# Altium integrated library IR Rectifier - Schottky.IntLib: 340 symbols (part 4 of 6)
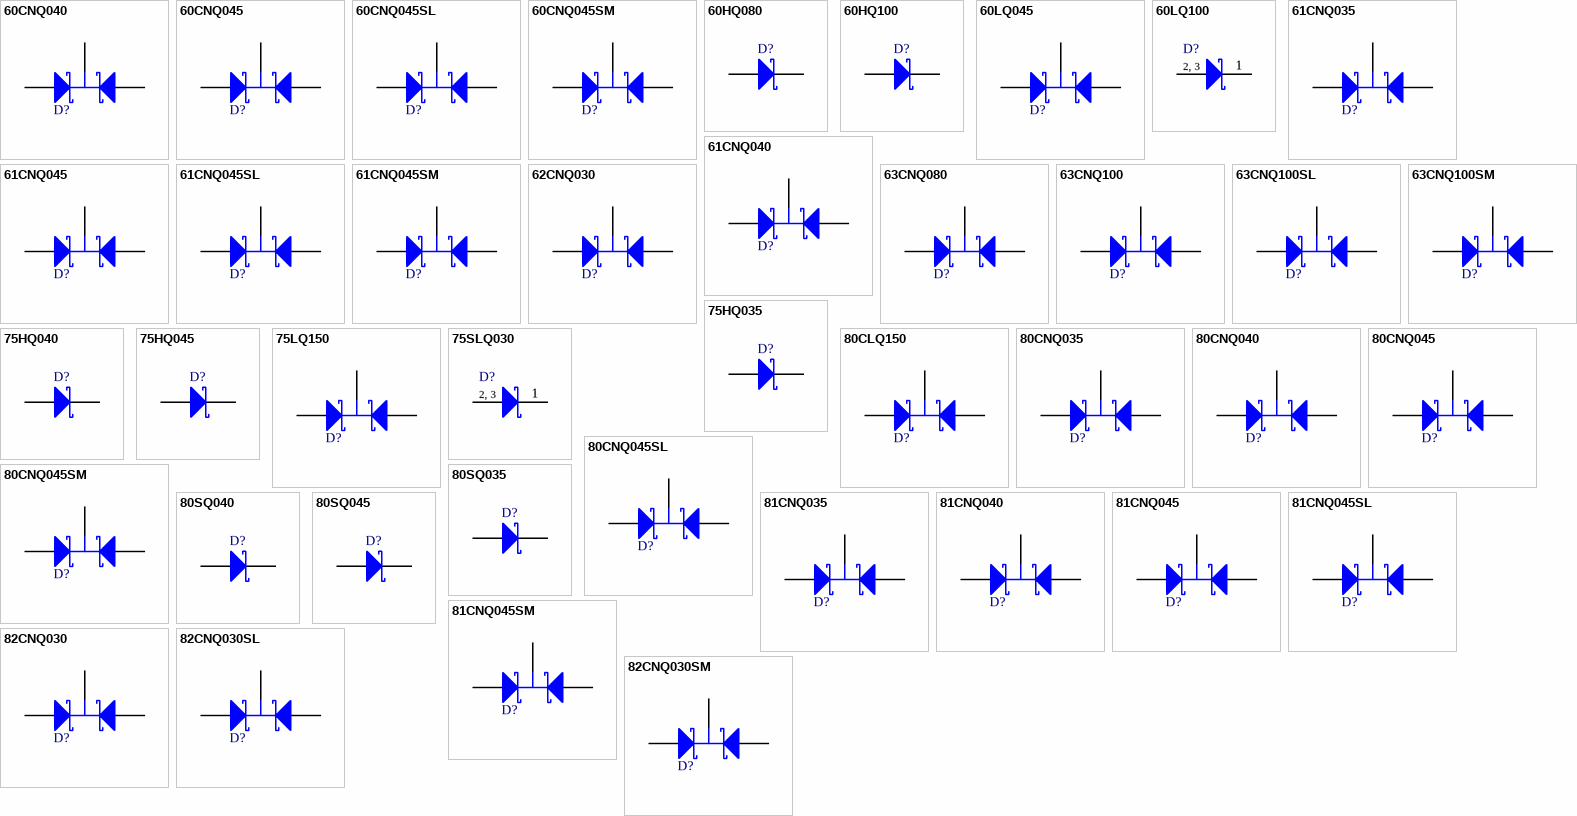
[diagram p11: symbols 60CNQ040 to 82CNQ030SM]

## 82CNQ030
designator D?
Schottky Rectifier; Note: Pin 2 (cathode) is electrically connected to BASE; Published: 8-Jun-2000; LatestRevisionDate: 17-Jul-2002; LatestRevisionNote: Re-released for DXP Platform.; DatasheetVersion: Jan-1999; PackageVersion: Jan-1999; PackageReference: D61-8; Publisher: Altium Limited; PackageDescription: Rectangular Flange Mount, Thru-Hole; 3 Leads; Pitch 5.08 mm; ComponentLink1Description: Manufacturer Link; ComponentLink1URL: http://www.irf.com/; ComponentLink2Description: Datasheet; ComponentLink2URL: http://www.irf.com/product-info/datasheets/data/82cnq030.pdf
footprint D61-8 (Rectangular Flange Mount, Thru-Hole; 3 Leads; Pitch 5.08 mm)
signal-integrity model 82CNQ030
pins: 1 A1, 2 K, 3 A2

## 82CNQ030SL
designator D?
Schottky Rectifier; Note: Pin 2 (cathode) is trimmed but is electrically connected to BASE; Published: 8-Jun-2000; LatestRevisionDate: 17-Jul-2002; LatestRevisionNote: Re-released for DXP Platform.; DatasheetVersion: Jan-1999; PackageVersion: Jan-1999; PackageReference: D61-8-SL; Publisher: Altium Limited; PackageDescription: 3-Pin Transistor Outline Package 5.08 mm Pitch, 14.1 mm Lead Span; ComponentLink1Description: Manufacturer Link; ComponentLink1URL: http://www.irf.com/; ComponentLink2Description: Datasheet; ComponentLink2URL: http://www.irf.com/product-info/datasheets/data/82cnq030.pdf
footprint D61-8-SL_N (Single-Ended SM Package, 4-Leads, Body 10.6x16mm, Pitch 5.08mm, Lead Span 14.1mm, IPC Medium Density)
footprint D61-8-SL_L (Single-Ended SM Package, 4-Leads, Body 10.6x16mm, Pitch 5.08mm, Lead Span 14.1mm, IPC High Density)
footprint D61-8-SL_M (Single-Ended SM Package, 4-Leads, Body 10.6x16mm, Pitch 5.08mm, Lead Span 14.1mm, IPC Low Density)
signal-integrity model 82CNQ030SL
pins: 1 A1, 2 K, 3 A2

## 82CNQ030SM
designator D?
Schottky Rectifier; Note: Pin 2 (cathode) is electrically connected to BASE; Published: 8-Jun-2000; LatestRevisionDate: 17-Jul-2002; LatestRevisionNote: Re-released for DXP Platform.; DatasheetVersion: Jan-1999; PackageVersion: Jan-1999; PackageReference: D61-8SM; Publisher: Altium Limited; PackageDescription: Rectangular Flange Mount, Thru-Hole; 3 Leads; Pitch 5.08 mm; ComponentLink1Description: Manufacturer Link; ComponentLink1URL: http://www.irf.com/; ComponentLink2Description: Datasheet; ComponentLink2URL: http://www.irf.com/product-info/datasheets/data/82cnq030.pdf
footprint D61-8SM (Rectangular Flange Mount, Thru-Hole; 3 Leads; Pitch 5.08 mm)
signal-integrity model 82CNQ030SM
pins: 1 A1, 2 K, 3 A2

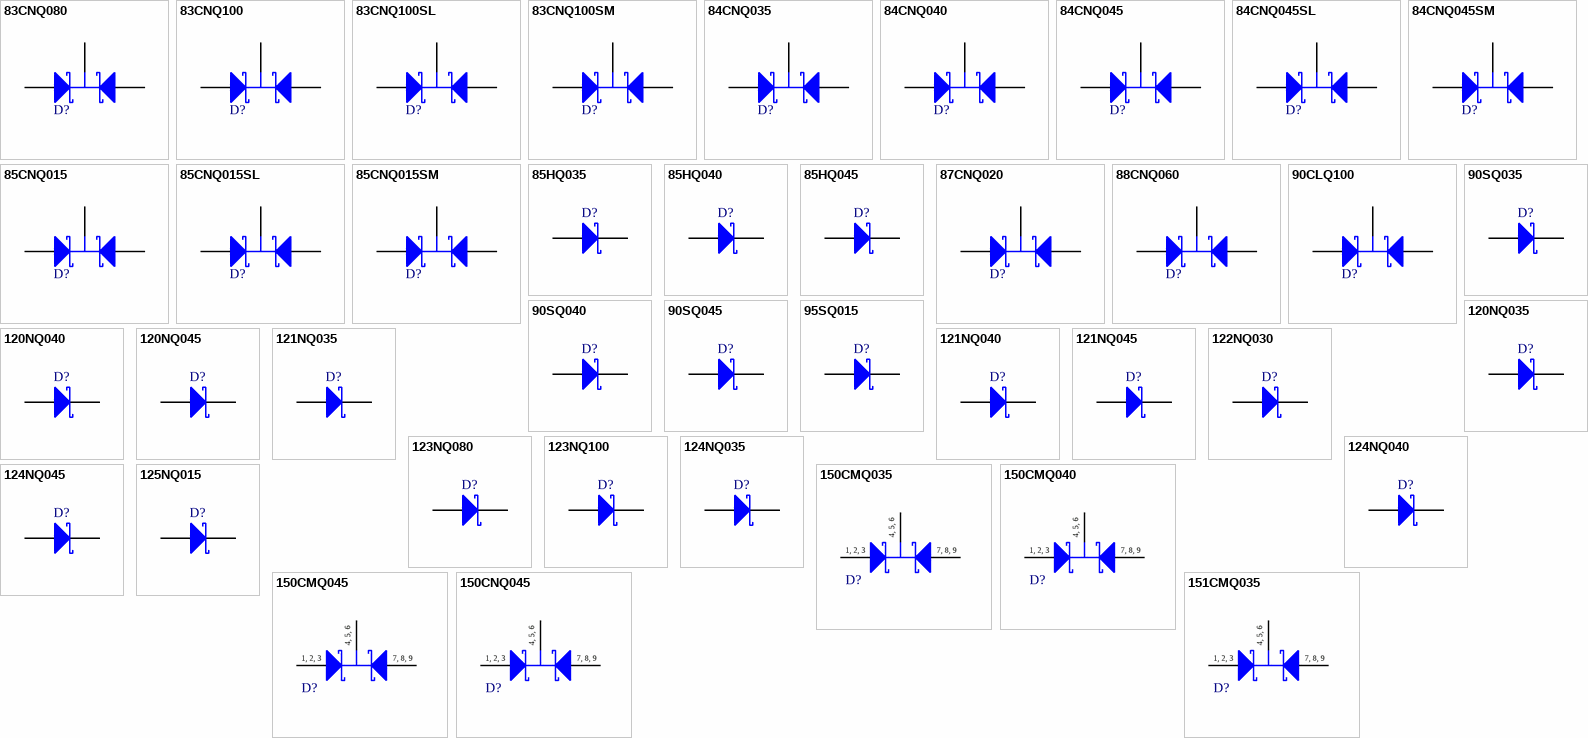
[diagram p5: symbols 83CNQ080 to 151CMQ035]

## 83CNQ080
designator D?
Schottky Rectifier; Note: Pin 2 (cathode) is electrically connected to BASE; Published: 8-Jun-2000; LatestRevisionDate: 17-Jul-2002; LatestRevisionNote: Re-released for DXP Platform.; DatasheetVersion: Jan-1999; PackageVersion: Jan-1999; PackageReference: D61-8; Publisher: Altium Limited; PackageDescription: Rectangular Flange Mount, Thru-Hole; 3 Leads; Pitch 5.08 mm; ComponentLink1Description: Manufacturer Link; ComponentLink1URL: http://www.irf.com/; ComponentLink2Description: Datasheet; ComponentLink2URL: http://www.irf.com/product-info/datasheets/data/83cnq.pdf
footprint D61-8 (Rectangular Flange Mount, Thru-Hole; 3 Leads; Pitch 5.08 mm)
signal-integrity model 83CNQ080
pins: 1 A1, 2 K, 3 A2

## 83CNQ100
designator D?
Schottky Rectifier; Note: Pin 2 (cathode) is electrically connected to BASE; Published: 8-Jun-2000; LatestRevisionDate: 17-Jul-2002; LatestRevisionNote: Re-released for DXP Platform.; DatasheetVersion: Jan-1999; PackageVersion: Jan-1999; PackageReference: D61-8; Publisher: Altium Limited; PackageDescription: Rectangular Flange Mount, Thru-Hole; 3 Leads; Pitch 5.08 mm; ComponentLink1Description: Manufacturer Link; ComponentLink1URL: http://www.irf.com/; ComponentLink2Description: Datasheet; ComponentLink2URL: http://www.irf.com/product-info/datasheets/data/83cnq.pdf
footprint D61-8 (Rectangular Flange Mount, Thru-Hole; 3 Leads; Pitch 5.08 mm)
signal-integrity model 83CNQ100
pins: 1 A1, 2 K, 3 A2

## 83CNQ100SL
designator D?
Schottky Rectifier; Note: Pin 2 (cathode) is trimmed but is electrically connected to BASE; Published: 8-Jun-2000; LatestRevisionDate: 17-Jul-2002; LatestRevisionNote: Re-released for DXP Platform.; DatasheetVersion: Jan-1999; PackageVersion: Jan-1999; PackageReference: D61-8-SL; Publisher: Altium Limited; PackageDescription: 3-Pin Transistor Outline Package 5.08 mm Pitch, 14.1 mm Lead Span; ComponentLink1Description: Manufacturer Link; ComponentLink1URL: http://www.irf.com/; ComponentLink2Description: Datasheet; ComponentLink2URL: http://www.irf.com/product-info/datasheets/data/83cnq.pdf
footprint D61-8-SL_N (Single-Ended SM Package, 4-Leads, Body 10.6x16mm, Pitch 5.08mm, Lead Span 14.1mm, IPC Medium Density)
footprint D61-8-SL_L (Single-Ended SM Package, 4-Leads, Body 10.6x16mm, Pitch 5.08mm, Lead Span 14.1mm, IPC High Density)
footprint D61-8-SL_M (Single-Ended SM Package, 4-Leads, Body 10.6x16mm, Pitch 5.08mm, Lead Span 14.1mm, IPC Low Density)
signal-integrity model 83CNQ100SL
pins: 1 A1, 2 K, 3 A2

## 83CNQ100SM
designator D?
Schottky Rectifier; Note: Pin 2 (cathode) is electrically connected to BASE; Published: 8-Jun-2000; LatestRevisionDate: 17-Jul-2002; LatestRevisionNote: Re-released for DXP Platform.; DatasheetVersion: Jan-1999; PackageVersion: Jan-1999; PackageReference: D61-8SM; Publisher: Altium Limited; PackageDescription: Rectangular Flange Mount, Thru-Hole; 3 Leads; Pitch 5.08 mm; ComponentLink1Description: Manufacturer Link; ComponentLink1URL: http://www.irf.com/; ComponentLink2Description: Datasheet; ComponentLink2URL: http://www.irf.com/product-info/datasheets/data/83cnq.pdf
footprint D61-8SM (Rectangular Flange Mount, Thru-Hole; 3 Leads; Pitch 5.08 mm)
signal-integrity model 83CNQ100SM
pins: 1 A1, 2 K, 3 A2

## 84CNQ035
designator D?
Schottky Rectifier; Note: Pin 2 (cathode) is electrically connected to BASE; Published: 8-Jun-2000; LatestRevisionDate: 17-Jul-2002; LatestRevisionNote: Re-released for DXP Platform.; DatasheetVersion: Jan-1999; PackageVersion: Jan-1999; PackageReference: D61-8; Publisher: Altium Limited; PackageDescription: Rectangular Flange Mount, Thru-Hole; 3 Leads; Pitch 5.08 mm; ComponentLink1Description: Manufacturer Link; ComponentLink1URL: http://www.irf.com/
footprint D61-8 (Rectangular Flange Mount, Thru-Hole; 3 Leads; Pitch 5.08 mm)
simulation model 84CNQ035 (SUBCKT)
signal-integrity model 84CNQ035
pins: 1 A1, 2 K, 3 A2

## 84CNQ040
designator D?
Schottky Rectifier; Note: Pin 2 (cathode) is electrically connected to BASE; Published: 8-Jun-2000; LatestRevisionDate: 17-Jul-2002; LatestRevisionNote: Re-released for DXP Platform.; DatasheetVersion: Jan-1999; PackageVersion: Jan-1999; PackageReference: D61-8; Publisher: Altium Limited; PackageDescription: Rectangular Flange Mount, Thru-Hole; 3 Leads; Pitch 5.08 mm; ComponentLink1Description: Manufacturer Link; ComponentLink1URL: http://www.irf.com/
footprint D61-8 (Rectangular Flange Mount, Thru-Hole; 3 Leads; Pitch 5.08 mm)
simulation model 84CNQ040 (SUBCKT)
signal-integrity model 84CNQ040
pins: 1 A1, 2 K, 3 A2

## 84CNQ045
designator D?
Schottky Rectifier; Note: Pin 2 (cathode) is electrically connected to BASE; Published: 8-Jun-2000; LatestRevisionDate: 17-Jul-2002; LatestRevisionNote: Re-released for DXP Platform.; DatasheetVersion: Jan-1999; PackageVersion: Jan-1999; PackageReference: D61-8; Publisher: Altium Limited; PackageDescription: Rectangular Flange Mount, Thru-Hole; 3 Leads; Pitch 5.08 mm; ComponentLink1Description: Manufacturer Link; ComponentLink1URL: http://www.irf.com/
footprint D61-8 (Rectangular Flange Mount, Thru-Hole; 3 Leads; Pitch 5.08 mm)
simulation model 84CNQ045 (SUBCKT)
signal-integrity model 84CNQ045
pins: 1 A1, 2 K, 3 A2

## 84CNQ045SL
designator D?
Schottky Rectifier; Note: Pin 2 (cathode) is trimmed but is electrically connected to BASE; Published: 8-Jun-2000; LatestRevisionDate: 17-Jul-2002; LatestRevisionNote: Re-released for DXP Platform.; DatasheetVersion: Jan-1999; PackageVersion: Jan-1999; PackageReference: D61-8-SL; Publisher: Altium Limited; PackageDescription: 3-Pin Transistor Outline Package 5.08 mm Pitch, 14.1 mm Lead Span; ComponentLink1Description: Manufacturer Link; ComponentLink1URL: http://www.irf.com/
footprint D61-8-SL_N (Single-Ended SM Package, 4-Leads, Body 10.6x16mm, Pitch 5.08mm, Lead Span 14.1mm, IPC Medium Density)
footprint D61-8-SL_L (Single-Ended SM Package, 4-Leads, Body 10.6x16mm, Pitch 5.08mm, Lead Span 14.1mm, IPC High Density)
footprint D61-8-SL_M (Single-Ended SM Package, 4-Leads, Body 10.6x16mm, Pitch 5.08mm, Lead Span 14.1mm, IPC Low Density)
simulation model 84CNQ045SL (SUBCKT)
signal-integrity model 84CNQ045SL
pins: 1 A1, 2 K, 3 A2

## 84CNQ045SM
designator D?
Schottky Rectifier; Note: Pin 2 (cathode) is electrically connected to BASE; Published: 8-Jun-2000; LatestRevisionDate: 17-Jul-2002; LatestRevisionNote: Re-released for DXP Platform.; DatasheetVersion: Jan-1999; PackageVersion: Jan-1999; PackageReference: D61-8-SM; Publisher: Altium Limited; PackageDescription: Rectangular Flange Mount, Thru-Hole; 3 Leads; Pitch 5.08 mm; ComponentLink1Description: Manufacturer Link; ComponentLink1URL: http://www.irf.com/
footprint D61-8-SM (Rectangular Flange Mount, Thru-Hole; 3 Leads; Pitch 5.08 mm)
simulation model 84CNQ045SM (SUBCKT)
signal-integrity model 84CNQ045SM
pins: 1 A1, 2 K, 3 A2

## 85CNQ015
designator D?
Schottky Rectifier; Note: Pin 2 (cathode) is electrically connected to BASE; Published: 8-Jun-2000; LatestRevisionDate: 17-Jul-2002; LatestRevisionNote: Re-released for DXP Platform.; DatasheetVersion: Jan-1999; PackageVersion: Jan-1999; PackageReference: D61-8; Publisher: Altium Limited; PackageDescription: Rectangular Flange Mount, Thru-Hole; 3 Leads; Pitch 5.08 mm; ComponentLink1Description: Manufacturer Link; ComponentLink1URL: http://www.irf.com/; ComponentLink2Description: Datasheet; ComponentLink2URL: http://www.irf.com/product-info/datasheets/data/85cnq015.pdf
footprint D61-8 (Rectangular Flange Mount, Thru-Hole; 3 Leads; Pitch 5.08 mm)
signal-integrity model 85CNQ015
pins: 1 A1, 2 K, 3 A2

## 85CNQ015SL
designator D?
Schottky Rectifier; Note: Pin 2 (cathode) is trimmed but is electrically connected to BASE; Published: 8-Jun-2000; LatestRevisionDate: 17-Jul-2002; LatestRevisionNote: Re-released for DXP Platform.; DatasheetVersion: Jan-1999; PackageVersion: Jan-1999; PackageReference: D61-8-SL; Publisher: Altium Limited; PackageDescription: 3-Pin Transistor Outline Package 5.08 mm Pitch, 14.1 mm Lead Span; ComponentLink1Description: Manufacturer Link; ComponentLink1URL: http://www.irf.com/; ComponentLink2Description: Datasheet; ComponentLink2URL: http://www.irf.com/product-info/datasheets/data/85cnq015.pdf
footprint D61-8-SL_N (Single-Ended SM Package, 4-Leads, Body 10.6x16mm, Pitch 5.08mm, Lead Span 14.1mm, IPC Medium Density)
footprint D61-8-SL_L (Single-Ended SM Package, 4-Leads, Body 10.6x16mm, Pitch 5.08mm, Lead Span 14.1mm, IPC High Density)
footprint D61-8-SL_M (Single-Ended SM Package, 4-Leads, Body 10.6x16mm, Pitch 5.08mm, Lead Span 14.1mm, IPC Low Density)
signal-integrity model 85CNQ015SL
pins: 1 A1, 2 K, 3 A2

## 85CNQ015SM
designator D?
Schottky Rectifier; Note: Pin 2 (cathode) is electrically connected to BASE; Published: 8-Jun-2000; LatestRevisionDate: 17-Jul-2002; LatestRevisionNote: Re-released for DXP Platform.; DatasheetVersion: Jan-1999; PackageVersion: Jan-1999; PackageReference: D61-8SM; Publisher: Altium Limited; PackageDescription: Rectangular Flange Mount, Thru-Hole; 3 Leads; Pitch 5.08 mm; ComponentLink1Description: Manufacturer Link; ComponentLink1URL: http://www.irf.com/; ComponentLink2Description: Datasheet; ComponentLink2URL: http://www.irf.com/product-info/datasheets/data/85cnq015.pdf
footprint D61-8SM (Rectangular Flange Mount, Thru-Hole; 3 Leads; Pitch 5.08 mm)
signal-integrity model 85CNQ015SM
pins: 1 A1, 2 K, 3 A2

## 85HQ035
designator D?
Schottky Rectifier; Note: No PCB Footprint Available; Published: 8-Jun-2000; LatestRevisionDate: 17-Jul-2002; LatestRevisionNote: Re-released for DXP Platform.; DatasheetVersion: Dec-1997; PackageReference: DO-203AB; Publisher: Altium Limited; ComponentLink1Description: Manufacturer Link; ComponentLink1URL: http://www.irf.com/; ComponentLink2Description: Datasheet; ComponentLink2URL: http://www.irf.com/product-info/datasheets/data/85hq.pdf
simulation model 85HQ035 (DIODE)
signal-integrity model 85HQ035
pins: 1 A, 2 K

## 85HQ040
designator D?
Schottky Rectifier; Note: No PCB Footprint Available; Published: 8-Jun-2000; LatestRevisionDate: 17-Jul-2002; LatestRevisionNote: Re-released for DXP Platform.; DatasheetVersion: Dec-1997; PackageReference: DO-203AB; Publisher: Altium Limited; ComponentLink1Description: Manufacturer Link; ComponentLink1URL: http://www.irf.com/; ComponentLink2Description: Datasheet; ComponentLink2URL: http://www.irf.com/product-info/datasheets/data/85hq.pdf
simulation model 85HQ040 (DIODE)
signal-integrity model 85HQ040
pins: 1 A, 2 K

## 85HQ045
designator D?
Schottky Rectifier; Note: No PCB Footprint Available; Published: 8-Jun-2000; LatestRevisionDate: 17-Jul-2002; LatestRevisionNote: Re-released for DXP Platform.; DatasheetVersion: Dec-1997; PackageReference: DO-203AB; Publisher: Altium Limited; ComponentLink1Description: Manufacturer Link; ComponentLink1URL: http://www.irf.com/; ComponentLink2Description: Datasheet; ComponentLink2URL: http://www.irf.com/product-info/datasheets/data/85hq.pdf
simulation model 85HQ045 (DIODE)
signal-integrity model 85HQ045
pins: 1 A, 2 K

## 87CNQ020
designator D?
Schottky Rectifier; Published: 8-Jun-2000; LatestRevisionDate: 17-Jul-2002; LatestRevisionNote: Re-released for DXP Platform.; DatasheetVersion: Dec-1997; PackageVersion: Jan-1999; PackageReference: D61-8; Publisher: Altium Limited; PackageDescription: Rectangular Flange Mount, Thru-Hole; 3 Leads; Pitch 5.08 mm; ComponentLink1Description: Manufacturer Link; ComponentLink1URL: http://www.irf.com/
footprint D61-8 (Rectangular Flange Mount, Thru-Hole; 3 Leads; Pitch 5.08 mm)
signal-integrity model 87CNQ020
pins: 1 A1, 2 K, 3 A2

## 88CNQ060
designator D?
Schottky Rectifier; Note: Pin 2 (cathode) is electrically connected to BASE; Published: 8-Jun-2000; LatestRevisionDate: 17-Jul-2002; LatestRevisionNote: Re-released for DXP Platform.; DatasheetVersion: Sep-1995; PackageVersion: Jan-1999; PackageReference: D61-8; Publisher: Altium Limited; PackageDescription: Rectangular Flange Mount, Thru-Hole; 3 Leads; Pitch 5.08 mm; ComponentLink1Description: Manufacturer Link; ComponentLink1URL: http://www.irf.com/; ComponentLink2Description: Datasheet; ComponentLink2URL: http://www.irf.com/product-info/datasheets/data/88cnq060.pdf
footprint D61-8 (Rectangular Flange Mount, Thru-Hole; 3 Leads; Pitch 5.08 mm)
signal-integrity model 88CNQ060
pins: 1 A1, 2 K, 3 A2

## 90CLQ100
designator D?
Schottky Rectifier; Published: 17-Sep-2003; LatestRevisionDate: 04-Jan-2011; LatestRevisionNote: PCB pads 2 & 3 swapped.; DatasheetVersion: 23-Oct-2000; PackageVersion: Jan-2003; PackageReference: SMD-1; Publisher: Altium Limited; PackageDescription: SM; 3 Leadless Terminals; Body 15.88 x 11.43 x 3.58 mm (LxWxH); ComponentLink1Description: Manufacturer Link; ComponentLink1URL: http://www.irf.com/; ComponentLink2Description: Datasheet; ComponentLink2URL: http://www.irf.com/product-info/datasheets/data/90CLQ100.pdf
footprint SMD-1 (SM; 3 Leadless Terminals; Body 15.88 x 11.43 x 3.58 mm (LxWxH))
simulation model 90CLQ100 (SUBCKT)
pins: 1 K, 2 A1, 3 A2

## 90SQ035
designator D?
Schottky Rectifier; Published: 8-Jun-2000; LatestRevisionDate: 17-Jul-2002; LatestRevisionNote: Re-released for DXP Platform.; DatasheetVersion: Dec-1997; PackageReference: DO-204AR; Publisher: Altium Limited; PackageDescription: Diode, Axial; Body 9.5 x 6.4 mm (LxDia. max), Lead Dia. 1.32 mm (max); Code_JEDEC: DO-204-AR; ComponentLink1Description: Manufacturer Link; ComponentLink1URL: http://www.irf.com/; ComponentLink2Description: Datasheet; ComponentLink2URL: http://www.irf.com/product-info/datasheets/data/90sq.pdf
footprint DO-204AR (Diode, Axial; Body 9.5 x 6.4 mm (LxDia. max), Lead Dia. 1.32 mm (max))
signal-integrity model 90SQ035
pins: 1 A, 2 K

## 90SQ040
designator D?
Schottky Rectifier; Published: 8-Jun-2000; LatestRevisionDate: 17-Jul-2002; LatestRevisionNote: Re-released for DXP Platform.; DatasheetVersion: Dec-1997; PackageReference: DO-204AR; Publisher: Altium Limited; PackageDescription: Diode, Axial; Body 9.5 x 6.4 mm (LxDia. max), Lead Dia. 1.32 mm (max); Code_JEDEC: DO-204-AR; ComponentLink1Description: Manufacturer Link; ComponentLink1URL: http://www.irf.com/; ComponentLink2Description: Datasheet; ComponentLink2URL: http://www.irf.com/product-info/datasheets/data/90sq.pdf
footprint DO-204AR (Diode, Axial; Body 9.5 x 6.4 mm (LxDia. max), Lead Dia. 1.32 mm (max))
signal-integrity model 90SQ040
pins: 1 A, 2 K

## 90SQ045
designator D?
Schottky Rectifier; Published: 8-Jun-2000; LatestRevisionDate: 17-Jul-2002; LatestRevisionNote: Re-released for DXP Platform.; DatasheetVersion: Dec-1997; PackageReference: DO-204AR; Publisher: Altium Limited; PackageDescription: Diode, Axial; Body 9.5 x 6.4 mm (LxDia. max), Lead Dia. 1.32 mm (max); Code_JEDEC: DO-204-AR; ComponentLink1Description: Manufacturer Link; ComponentLink1URL: http://www.irf.com/; ComponentLink2Description: Datasheet; ComponentLink2URL: http://www.irf.com/product-info/datasheets/data/90sq.pdf
footprint DO-204AR (Diode, Axial; Body 9.5 x 6.4 mm (LxDia. max), Lead Dia. 1.32 mm (max))
signal-integrity model 90SQ045
pins: 1 A, 2 K

## 95SQ015
designator D?
Schottky Rectifier; Published: 8-Jun-2000; LatestRevisionDate: 17-Jul-2002; LatestRevisionNote: Re-released for DXP Platform.; DatasheetVersion: Dec-1997; PackageReference: DO-204AR; Publisher: Altium Limited; PackageDescription: Diode, Axial; Body 9.5 x 6.4 mm (LxDia. max), Lead Dia. 1.32 mm (max); Code_JEDEC: DO-204-AR; ComponentLink1Description: Manufacturer Link; ComponentLink1URL: http://www.irf.com/; ComponentLink2Description: Datasheet; ComponentLink2URL: http://www.irf.com/product-info/datasheets/data/95sq015.pdf
footprint DO-204AR (Diode, Axial; Body 9.5 x 6.4 mm (LxDia. max), Lead Dia. 1.32 mm (max))
signal-integrity model 95SQ015
pins: 1 A, 2 K

## 120NQ035
designator D?
Schottky Rectifier; Note: Land pattern features silkscreen outline and mounting holes.; Published: 8-Jun-2000; LatestRevisionDate: 17-Jul-2002; LatestRevisionNote: Re-released for DXP Platform.; DatasheetVersion: Dec-1997; PackageVersion: Rev. B,  Feb-2001; PackageReference: HALF-PAK; Publisher: Altium Limited; PackageDescription: Half-Pak Module; 1 Lug Terminal, 1 Base Terminal; Body 39.62 x 19.69 x 15.11 mm (LxWxH max); ComponentLink1Description: Manufacturer Link; ComponentLink1URL: http://www.irf.com/; ComponentLink2Description: Datasheet; ComponentLink2URL: http://www.irf.com/product-info/datasheets/data/120nq.pdf
footprint HALF-PAK (Half-Pak Module; 1 Lug Terminal, 1 Base Terminal; Body 39.62 x 19.69 x 15.11 mm (LxWxH max))
simulation model 120NQ035 (DIODE)
signal-integrity model 120NQ035
pins: 1 A, 2 K

## 120NQ040
designator D?
Schottky Rectifier; Note: Land pattern features silkscreen outline and mounting holes.; Published: 8-Jun-2000; LatestRevisionDate: 17-Jul-2002; LatestRevisionNote: Re-released for DXP Platform.; DatasheetVersion: Dec-1997; PackageVersion: Rev. B,  Feb-2001; PackageReference: HALF-PAK; Publisher: Altium Limited; PackageDescription: Half-Pak Module; 1 Lug Terminal, 1 Base Terminal; Body 39.62 x 19.69 x 15.11 mm (LxWxH max); ComponentLink1Description: Manufacturer Link; ComponentLink1URL: http://www.irf.com/; ComponentLink2Description: Datasheet; ComponentLink2URL: http://www.irf.com/product-info/datasheets/data/120nq.pdf
footprint HALF-PAK (Half-Pak Module; 1 Lug Terminal, 1 Base Terminal; Body 39.62 x 19.69 x 15.11 mm (LxWxH max))
simulation model 120NQ040 (DIODE)
signal-integrity model 120NQ040
pins: 1 A, 2 K

## 120NQ045
designator D?
Schottky Rectifier; Note: Land pattern features silkscreen outline and mounting holes.; Published: 8-Jun-2000; LatestRevisionDate: 17-Jul-2002; LatestRevisionNote: Re-released for DXP Platform.; DatasheetVersion: Dec-1997; PackageVersion: Rev. B,  Feb-2001; PackageReference: HALF-PAK; Publisher: Altium Limited; PackageDescription: Half-Pak Module; 1 Lug Terminal, 1 Base Terminal; Body 39.62 x 19.69 x 15.11 mm (LxWxH max); ComponentLink1Description: Manufacturer Link; ComponentLink1URL: http://www.irf.com/; ComponentLink2Description: Datasheet; ComponentLink2URL: http://www.irf.com/product-info/datasheets/data/120nq.pdf
footprint HALF-PAK (Half-Pak Module; 1 Lug Terminal, 1 Base Terminal; Body 39.62 x 19.69 x 15.11 mm (LxWxH max))
simulation model 120NQ045 (DIODE)
signal-integrity model 120NQ045
pins: 1 A, 2 K

## 121NQ035
designator D?
Schottky Rectifier; Note: Land pattern features silkscreen outline and mounting holes.; Published: 8-Jun-2000; LatestRevisionDate: 17-Jul-2002; LatestRevisionNote: Re-released for DXP Platform.; DatasheetVersion: Dec-1997; PackageVersion: Rev. B,  Feb-2001; PackageReference: HALF-PAK; Publisher: Altium Limited; PackageDescription: Half-Pak Module; 1 Lug Terminal, 1 Base Terminal; Body 39.62 x 19.69 x 15.11 mm (LxWxH max); ComponentLink1Description: Manufacturer Link; ComponentLink1URL: http://www.irf.com/; ComponentLink2Description: Datasheet; ComponentLink2URL: http://www.irf.com/product-info/datasheets/data/10bq60.pdf
footprint HALF-PAK (Half-Pak Module; 1 Lug Terminal, 1 Base Terminal; Body 39.62 x 19.69 x 15.11 mm (LxWxH max))
simulation model 121NQ035 (DIODE)
signal-integrity model 121NQ035
pins: 1 A, 2 K

## 121NQ040
designator D?
Schottky Rectifier; Note: Land pattern features silkscreen outline and mounting holes.; Published: 8-Jun-2000; LatestRevisionDate: 17-Jul-2002; LatestRevisionNote: Re-released for DXP Platform.; DatasheetVersion: Dec-1997; PackageVersion: Rev. B,  Feb-2001; PackageReference: HALF-PAK; Publisher: Altium Limited; PackageDescription: Half-Pak Module; 1 Lug Terminal, 1 Base Terminal; Body 39.62 x 19.69 x 15.11 mm (LxWxH max); ComponentLink1Description: Manufacturer Link; ComponentLink1URL: http://www.irf.com/; ComponentLink2Description: Datasheet; ComponentLink2URL: http://www.irf.com/product-info/datasheets/data/10bq60.pdf
footprint HALF-PAK (Half-Pak Module; 1 Lug Terminal, 1 Base Terminal; Body 39.62 x 19.69 x 15.11 mm (LxWxH max))
simulation model 121NQ040 (DIODE)
signal-integrity model 121NQ040
pins: 1 A, 2 K

## 121NQ045
designator D?
Schottky Rectifier; Note: Land pattern features silkscreen outline and mounting holes.; Published: 8-Jun-2000; LatestRevisionDate: 17-Jul-2002; LatestRevisionNote: Re-released for DXP Platform.; DatasheetVersion: Dec-1997; PackageVersion: Rev. B,  Feb-2001; PackageReference: HALF-PAK; Publisher: Altium Limited; PackageDescription: Half-Pak Module; 1 Lug Terminal, 1 Base Terminal; Body 39.62 x 19.69 x 15.11 mm (LxWxH max); ComponentLink1Description: Manufacturer Link; ComponentLink1URL: http://www.irf.com/; ComponentLink2Description: Datasheet; ComponentLink2URL: http://www.irf.com/product-info/datasheets/data/10bq60.pdf
footprint HALF-PAK (Half-Pak Module; 1 Lug Terminal, 1 Base Terminal; Body 39.62 x 19.69 x 15.11 mm (LxWxH max))
simulation model 121NQ045 (DIODE)
signal-integrity model 121NQ045
pins: 1 A, 2 K

## 122NQ030
designator D?
Schottky Rectifier; Note: Land pattern features silkscreen outline and mounting holes.; Published: 8-Jun-2000; LatestRevisionDate: 17-Jul-2002; LatestRevisionNote: Re-released for DXP Platform.; DatasheetVersion: Dec-1997; PackageVersion: Rev. B,  Feb-2001; PackageReference: HALF-PAK; Publisher: Altium Limited; PackageDescription: Half-Pak Module; 1 Lug Terminal, 1 Base Terminal; Body 39.62 x 19.69 x 15.11 mm (LxWxH max); ComponentLink1Description: Manufacturer Link; ComponentLink1URL: http://www.irf.com/; ComponentLink2Description: Datasheet; ComponentLink2URL: http://www.irf.com/product-info/datasheets/data/122nq030.pdf
footprint HALF-PAK (Half-Pak Module; 1 Lug Terminal, 1 Base Terminal; Body 39.62 x 19.69 x 15.11 mm (LxWxH max))
simulation model 122NQ030 (DIODE)
signal-integrity model 122NQ030
pins: 1 A, 2 K

## 123NQ080
designator D?
Schottky Rectifier; Note: Land pattern features silkscreen outline and mounting holes.; Published: 8-Jun-2000; LatestRevisionDate: 17-Jul-2002; LatestRevisionNote: Re-released for DXP Platform.; DatasheetVersion: Dec-1997; PackageVersion: Rev. B,  Feb-2001; PackageReference: HALF-PAK; Publisher: Altium Limited; PackageDescription: Half-Pak Module; 1 Lug Terminal, 1 Base Terminal; Body 39.62 x 19.69 x 15.11 mm (LxWxH max); ComponentLink1Description: Manufacturer Link; ComponentLink1URL: http://www.irf.com/; ComponentLink2Description: Datasheet; ComponentLink2URL: http://www.irf.com/product-info/datasheets/data/123nq.pdf
footprint HALF-PAK (Half-Pak Module; 1 Lug Terminal, 1 Base Terminal; Body 39.62 x 19.69 x 15.11 mm (LxWxH max))
simulation model 123NQ080 (DIODE)
signal-integrity model 123NQ080
pins: 1 A, 2 K

## 123NQ100
designator D?
Schottky Rectifier; Note: Land pattern features silkscreen outline and mounting holes.; Published: 8-Jun-2000; LatestRevisionDate: 17-Jul-2002; LatestRevisionNote: Re-released for DXP Platform.; DatasheetVersion: Dec-1997; PackageVersion: Rev. B,  Feb-2001; PackageReference: HALF-PAK; Publisher: Altium Limited; PackageDescription: Half-Pak Module; 1 Lug Terminal, 1 Base Terminal; Body 39.62 x 19.69 x 15.11 mm (LxWxH max); ComponentLink1Description: Manufacturer Link; ComponentLink1URL: http://www.irf.com/; ComponentLink2Description: Datasheet; ComponentLink2URL: http://www.irf.com/product-info/datasheets/data/123nq.pdf
footprint HALF-PAK (Half-Pak Module; 1 Lug Terminal, 1 Base Terminal; Body 39.62 x 19.69 x 15.11 mm (LxWxH max))
simulation model 123NQ100 (DIODE)
signal-integrity model 123NQ100
pins: 1 A, 2 K

## 124NQ035
designator D?
Schottky Rectifier; Note: Land pattern features silkscreen outline and mounting holes.; ComponentAvailability: Obsolete; Published: 8-Jun-2000; LatestRevisionDate: 17-Jul-2002; LatestRevisionNote: Re-released for DXP Platform.; DatasheetVersion: Dec-1997; PackageVersion: Rev. B,  Feb-2001; PackageReference: HALF-PAK; Publisher: Altium Limited; PackageDescription: Half-Pak Module; 1 Lug Terminal, 1 Base Terminal; Body 39.62 x 19.69 x 15.11 mm (LxWxH max); ComponentLink1Description: Manufacturer Link; ComponentLink1URL: http://www.irf.com/
footprint HALF-PAK (Half-Pak Module; 1 Lug Terminal, 1 Base Terminal; Body 39.62 x 19.69 x 15.11 mm (LxWxH max))
simulation model 124NQ035 (DIODE)
signal-integrity model 124NQ035
pins: 1 A, 2 K

## 124NQ040
designator D?
Schottky Rectifier; Note: Land pattern features silkscreen outline and mounting holes.; ComponentAvailability: Obsolete; Published: 8-Jun-2000; LatestRevisionDate: 17-Jul-2002; LatestRevisionNote: Re-released for DXP Platform.; DatasheetVersion: Dec-1997; PackageVersion: Rev. B,  Feb-2001; PackageReference: HALF-PAK; Publisher: Altium Limited; PackageDescription: Half-Pak Module; 1 Lug Terminal, 1 Base Terminal; Body 39.62 x 19.69 x 15.11 mm (LxWxH max); ComponentLink1Description: Manufacturer Link; ComponentLink1URL: http://www.irf.com/
footprint HALF-PAK (Half-Pak Module; 1 Lug Terminal, 1 Base Terminal; Body 39.62 x 19.69 x 15.11 mm (LxWxH max))
simulation model 124NQ040 (DIODE)
signal-integrity model 124NQ040
pins: 1 A, 2 K

## 124NQ045
designator D?
Schottky Rectifier; Note: Land pattern features silkscreen outline and mounting holes.; ComponentAvailability: Obsolete; Published: 8-Jun-2000; LatestRevisionDate: 17-Jul-2002; LatestRevisionNote: Re-released for DXP Platform.; DatasheetVersion: Dec-1997; PackageVersion: Rev. B,  Feb-2001; PackageReference: HALF-PAK; Publisher: Altium Limited; PackageDescription: Half-Pak Module; 1 Lug Terminal, 1 Base Terminal; Body 39.62 x 19.69 x 15.11 mm (LxWxH max); ComponentLink1Description: Manufacturer Link; ComponentLink1URL: http://www.irf.com/
footprint HALF-PAK (Half-Pak Module; 1 Lug Terminal, 1 Base Terminal; Body 39.62 x 19.69 x 15.11 mm (LxWxH max))
simulation model 124NQ045 (DIODE)
signal-integrity model 124NQ045
pins: 1 A, 2 K

## 125NQ015
designator D?
Schottky Rectifier; Note: Land pattern features silkscreen outline and mounting holes.; Published: 8-Jun-2000; LatestRevisionDate: 17-Jul-2002; LatestRevisionNote: Re-released for DXP Platform.; DatasheetVersion: Dec-1997; PackageVersion: Rev. B,  Feb-2001; PackageReference: HALF-PAK; Publisher: Altium Limited; PackageDescription: Half-Pak Module; 1 Lug Terminal, 1 Base Terminal; Body 39.62 x 19.69 x 15.11 mm (LxWxH max); ComponentLink1Description: Manufacturer Link; ComponentLink1URL: http://www.irf.com/; ComponentLink2Description: Datasheet; ComponentLink2URL: http://www.irf.com/product-info/datasheets/data/125nq015.pdf
footprint HALF-PAK (Half-Pak Module; 1 Lug Terminal, 1 Base Terminal; Body 39.62 x 19.69 x 15.11 mm (LxWxH max))
simulation model 125NQ015 (DIODE)
signal-integrity model 125NQ015
pins: 1 A, 2 K

## 150CMQ035
designator D?
Schottky Rectifier; Published: 8-Jun-2000; LatestRevisionDate: 17-Jul-2002; LatestRevisionNote: Re-released for DXP Platform.; DatasheetVersion: Dec-1997; PackageVersion: Mar-1999; PackageReference: TO-249; Publisher: Altium Limited; PackageDescription: Rectangular Flange Mount, Thru-Hole; 9 Leads; Pitch 3.81 mm; ComponentLink1Description: Manufacturer Link; ComponentLink1URL: http://www.irf.com/; ComponentLink2Description: Datasheet; ComponentLink2URL: http://www.irf.com/product-info/datasheets/data/150cmq.pdf
footprint TO-249 (Rectangular Flange Mount, Thru-Hole; 9 Leads; Pitch 3.81 mm)
signal-integrity model 150CMQ035
pins: 1 A1, 2 A1, 3 A1, 4 K, 5 K, 6 K, 7 A2, 8 A2, 9 A2
text: 4, 5, 6; 1, 2, 3; 7, 8, 9

## 150CMQ040
designator D?
Schottky Rectifier; Published: 8-Jun-2000; LatestRevisionDate: 17-Jul-2002; LatestRevisionNote: Re-released for DXP Platform.; DatasheetVersion: Dec-1997; PackageVersion: Mar-1999; PackageReference: TO-249; Publisher: Altium Limited; PackageDescription: Rectangular Flange Mount, Thru-Hole; 9 Leads; Pitch 3.81 mm; ComponentLink1Description: Manufacturer Link; ComponentLink1URL: http://www.irf.com/; ComponentLink2Description: Datasheet; ComponentLink2URL: http://www.irf.com/product-info/datasheets/data/150cmq.pdf
footprint TO-249 (Rectangular Flange Mount, Thru-Hole; 9 Leads; Pitch 3.81 mm)
signal-integrity model 150CMQ040
pins: 1 A1, 2 A1, 3 A1, 4 K, 5 K, 6 K, 7 A2, 8 A2, 9 A2
text: 4, 5, 6; 1, 2, 3; 7, 8, 9

## 150CMQ045
designator D?
Schottky Rectifier; Published: 8-Jun-2000; LatestRevisionDate: 17-Jul-2002; LatestRevisionNote: Re-released for DXP Platform.; DatasheetVersion: Dec-1997; PackageVersion: Mar-1999; PackageReference: TO-249; Publisher: Altium Limited; PackageDescription: Rectangular Flange Mount, Thru-Hole; 9 Leads; Pitch 3.81 mm; ComponentLink1Description: Manufacturer Link; ComponentLink1URL: http://www.irf.com/; ComponentLink2Description: Datasheet; ComponentLink2URL: http://www.irf.com/product-info/datasheets/data/150cmq.pdf
footprint TO-249 (Rectangular Flange Mount, Thru-Hole; 9 Leads; Pitch 3.81 mm)
signal-integrity model 150CMQ045
pins: 1 A1, 2 A1, 3 A1, 4 K, 5 K, 6 K, 7 A2, 8 A2, 9 A2
text: 4, 5, 6; 1, 2, 3; 7, 8, 9

## 150CNQ045
designator D?
Schottky Rectifier; Published: 8-Jun-2000; LatestRevisionDate: 17-Jul-2002; LatestRevisionNote: Re-released for DXP Platform.; DatasheetVersion: Nov-1997; PackageVersion: Mar-1999; PackageReference: TO-249; Publisher: Altium Limited; PackageDescription: Rectangular Flange Mount, Thru-Hole; 9 Leads; Pitch 3.81 mm; ComponentLink1Description: Manufacturer Link; ComponentLink1URL: http://www.irf.com/; ComponentLink2Description: Datasheet; ComponentLink2URL: http://www.irf.com/product-info/datasheets/data/150cnq035.pdf
footprint TO-249 (Rectangular Flange Mount, Thru-Hole; 9 Leads; Pitch 3.81 mm)
signal-integrity model 150CNQ045
pins: 1 A1, 2 A1, 3 A1, 4 K, 5 K, 6 K, 7 A2, 8 A2, 9 A2
text: 4, 5, 6; 1, 2, 3; 7, 8, 9

## 151CMQ035
designator D?
Schottky Rectifier; Published: 8-Jun-2000; LatestRevisionDate: 17-Jul-2002; LatestRevisionNote: Re-released for DXP Platform.; DatasheetVersion: Dec-1997; PackageVersion: Mar-1999; PackageReference: TO-249; Publisher: Altium Limited; PackageDescription: Rectangular Flange Mount, Thru-Hole; 9 Leads; Pitch 3.81 mm; ComponentLink1Description: Manufacturer Link; ComponentLink1URL: http://www.irf.com/; ComponentLink2Description: Datasheet; ComponentLink2URL: http://www.irf.com/product-info/datasheets/data/151cmq.pdf
footprint TO-249 (Rectangular Flange Mount, Thru-Hole; 9 Leads; Pitch 3.81 mm)
signal-integrity model 151CMQ035
pins: 1 A1, 2 A1, 3 A1, 4 K, 5 K, 6 K, 7 A2, 8 A2, 9 A2
text: 4, 5, 6; 1, 2, 3; 7, 8, 9

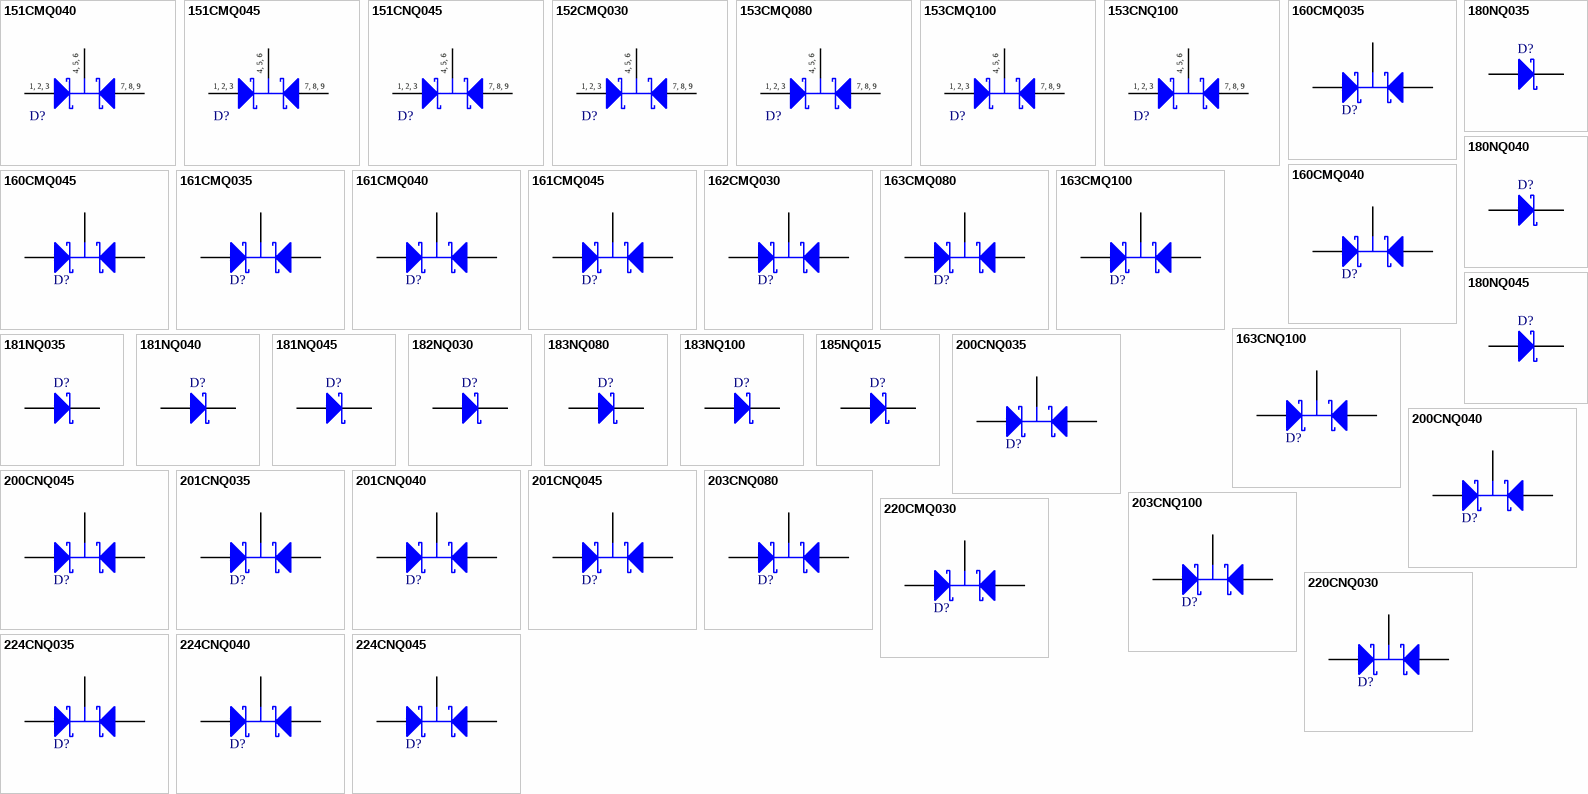
[diagram p6: symbols 151CMQ040 to 224CNQ045]

## 151CMQ040
designator D?
Schottky Rectifier; Published: 8-Jun-2000; LatestRevisionDate: 17-Jul-2002; LatestRevisionNote: Re-released for DXP Platform.; DatasheetVersion: Dec-1997; PackageVersion: Mar-1999; PackageReference: TO-249; Publisher: Altium Limited; PackageDescription: Rectangular Flange Mount, Thru-Hole; 9 Leads; Pitch 3.81 mm; ComponentLink1Description: Manufacturer Link; ComponentLink1URL: http://www.irf.com/; ComponentLink2Description: Datasheet; ComponentLink2URL: http://www.irf.com/product-info/datasheets/data/151cmq.pdf
footprint TO-249 (Rectangular Flange Mount, Thru-Hole; 9 Leads; Pitch 3.81 mm)
signal-integrity model 151CMQ040
pins: 1 A1, 2 A1, 3 A1, 4 K, 5 K, 6 K, 7 A2, 8 A2, 9 A2
text: 4, 5, 6; 1, 2, 3; 7, 8, 9

## 151CMQ045
designator D?
Schottky Rectifier; Published: 8-Jun-2000; LatestRevisionDate: 17-Jul-2002; LatestRevisionNote: Re-released for DXP Platform.; DatasheetVersion: Dec-1997; PackageVersion: Mar-1999; PackageReference: TO-249; Publisher: Altium Limited; PackageDescription: Rectangular Flange Mount, Thru-Hole; 9 Leads; Pitch 3.81 mm; ComponentLink1Description: Manufacturer Link; ComponentLink1URL: http://www.irf.com/; ComponentLink2Description: Datasheet; ComponentLink2URL: http://www.irf.com/product-info/datasheets/data/151cmq.pdf
footprint TO-249 (Rectangular Flange Mount, Thru-Hole; 9 Leads; Pitch 3.81 mm)
signal-integrity model 151CMQ045
pins: 1 A1, 2 A1, 3 A1, 4 K, 5 K, 6 K, 7 A2, 8 A2, 9 A2
text: 4, 5, 6; 1, 2, 3; 7, 8, 9

## 151CNQ045
designator D?
Schottky Rectifier; Published: 8-Jun-2000; LatestRevisionDate: 17-Jul-2002; LatestRevisionNote: Re-released for DXP Platform.; DatasheetVersion: Nov-1997; PackageVersion: Mar-1999; PackageReference: TO-249; Publisher: Altium Limited; PackageDescription: Rectangular Flange Mount, Thru-Hole; 9 Leads; Pitch 3.81 mm; ComponentLink1Description: Manufacturer Link; ComponentLink1URL: http://www.irf.com/; ComponentLink2Description: Datasheet; ComponentLink2URL: http://www.irf.com/product-info/datasheets/data/150cnq035.pdf
footprint TO-249 (Rectangular Flange Mount, Thru-Hole; 9 Leads; Pitch 3.81 mm)
signal-integrity model 151CNQ045
pins: 1 A1, 2 A1, 3 A1, 4 K, 5 K, 6 K, 7 A2, 8 A2, 9 A2
text: 4, 5, 6; 1, 2, 3; 7, 8, 9

## 152CMQ030
designator D?
Schottky Rectifier; Published: 8-Jun-2000; LatestRevisionDate: 17-Jul-2002; LatestRevisionNote: Re-released for DXP Platform.; DatasheetVersion: Dec-1997; PackageVersion: Mar-1999; PackageReference: TO-249; Publisher: Altium Limited; PackageDescription: Rectangular Flange Mount, Thru-Hole; 9 Leads; Pitch 3.81 mm; ComponentLink1Description: Manufacturer Link; ComponentLink1URL: http://www.irf.com/; ComponentLink2Description: Datasheet; ComponentLink2URL: http://www.irf.com/product-info/datasheets/data/152cmq030.pdf
footprint TO-249 (Rectangular Flange Mount, Thru-Hole; 9 Leads; Pitch 3.81 mm)
signal-integrity model 152CMQ030
pins: 1 A1, 2 A1, 3 A1, 4 K, 5 K, 6 K, 7 A2, 8 A2, 9 A2
text: 4, 5, 6; 1, 2, 3; 7, 8, 9

## 153CMQ080
designator D?
Schottky Rectifier; Published: 8-Jun-2000; LatestRevisionDate: 17-Jul-2002; LatestRevisionNote: Re-released for DXP Platform.; DatasheetVersion: Dec-1997; PackageVersion: Mar-1999; PackageReference: TO-249; Publisher: Altium Limited; PackageDescription: Rectangular Flange Mount, Thru-Hole; 9 Leads; Pitch 3.81 mm; ComponentLink1Description: Manufacturer Link; ComponentLink1URL: http://www.irf.com/; ComponentLink2Description: Datasheet; ComponentLink2URL: http://www.irf.com/product-info/datasheets/data/153cmq080.pdf
footprint TO-249 (Rectangular Flange Mount, Thru-Hole; 9 Leads; Pitch 3.81 mm)
signal-integrity model 153CMQ080
pins: 1 A1, 2 A1, 3 A1, 4 K, 5 K, 6 K, 7 A2, 8 A2, 9 A2
text: 4, 5, 6; 1, 2, 3; 7, 8, 9

## 153CMQ100
designator D?
Schottky Rectifier; Published: 8-Jun-2000; LatestRevisionDate: 17-Jul-2002; LatestRevisionNote: Re-released for DXP Platform.; DatasheetVersion: Dec-1997; PackageVersion: Mar-1999; PackageReference: TO-249; Publisher: Altium Limited; PackageDescription: Rectangular Flange Mount, Thru-Hole; 9 Leads; Pitch 3.81 mm; ComponentLink1Description: Manufacturer Link; ComponentLink1URL: http://www.irf.com/; ComponentLink2Description: Datasheet; ComponentLink2URL: http://www.irf.com/product-info/datasheets/data/153cmq080.pdf
footprint TO-249 (Rectangular Flange Mount, Thru-Hole; 9 Leads; Pitch 3.81 mm)
signal-integrity model 153CMQ100
pins: 1 A1, 2 A1, 3 A1, 4 K, 5 K, 6 K, 7 A2, 8 A2, 9 A2
text: 4, 5, 6; 1, 2, 3; 7, 8, 9

## 153CNQ100
designator D?
Schottky Rectifier; Published: 8-Jun-2000; LatestRevisionDate: 17-Jul-2002; LatestRevisionNote: Re-released for DXP Platform.; DatasheetVersion: Nov-1997; PackageVersion: Mar-1999; PackageReference: TO-249; Publisher: Altium Limited; PackageDescription: Rectangular Flange Mount, Thru-Hole; 9 Leads; Pitch 3.81 mm; ComponentLink1Description: Manufacturer Link; ComponentLink1URL: http://www.irf.com/; ComponentLink2Description: Datasheet; ComponentLink2URL: http://www.irf.com/product-info/datasheets/data/153cnq080.pdf
footprint TO-249 (Rectangular Flange Mount, Thru-Hole; 9 Leads; Pitch 3.81 mm)
signal-integrity model 153CNQ100
pins: 1 A1, 2 A1, 3 A1, 4 K, 5 K, 6 K, 7 A2, 8 A2, 9 A2
text: 4, 5, 6; 1, 2, 3; 7, 8, 9

## 160CMQ035
designator D?
Schottky Rectifier; Note: Land pattern features silkscreen outline and mounting holes only.; Published: 8-Jun-2000; LatestRevisionDate: 17-Jul-2002; LatestRevisionNote: Re-released for DXP Platform.; DatasheetVersion: Dec-1997; PackageVersion: Rev. A,  Dec-1997; PackageReference: TO-249AA; Publisher: Altium Limited; PackageDescription: Rectangular Flange Mount/TO-249-AA; 3 Terminals; Body 61.21 x 25.65 x 10.16 mm  (LxWxH max); ComponentLink1Description: Manufacturer Link; ComponentLink1URL: http://www.irf.com/; ComponentLink2Description: Datasheet; ComponentLink2URL: http://www.irf.com/product-info/datasheets/data/160cmq.pdf
footprint TO-249AA (Rectangular Flange Mount/TO-249-AA; 3 Terminals; Body 61.21 x 25.65 x 10.16 mm  (LxWxH max))
simulation model 160CMQ035 (SUBCKT)
signal-integrity model 160CMQ035
pins: 1 A1, 2 K, 3 A2

## 160CMQ040
designator D?
Schottky Rectifier; Note: Land pattern features silkscreen outline and mounting holes only.; Published: 8-Jun-2000; LatestRevisionDate: 17-Jul-2002; LatestRevisionNote: Re-released for DXP Platform.; DatasheetVersion: Dec-1997; PackageVersion: Rev. A,  Dec-1997; PackageReference: TO-249AA; Publisher: Altium Limited; PackageDescription: Rectangular Flange Mount/TO-249-AA; 3 Terminals; Body 61.21 x 25.65 x 10.16 mm  (LxWxH max); ComponentLink1Description: Manufacturer Link; ComponentLink1URL: http://www.irf.com/; ComponentLink2Description: Datasheet; ComponentLink2URL: http://www.irf.com/product-info/datasheets/data/160cmq.pdf
footprint TO-249AA (Rectangular Flange Mount/TO-249-AA; 3 Terminals; Body 61.21 x 25.65 x 10.16 mm  (LxWxH max))
simulation model 160CMQ040 (SUBCKT)
signal-integrity model 160CMQ040
pins: 1 A1, 2 K, 3 A2

## 160CMQ045
designator D?
Schottky Rectifier; Note: Land pattern features silkscreen outline and mounting holes only.; Published: 8-Jun-2000; LatestRevisionDate: 17-Jul-2002; LatestRevisionNote: Re-released for DXP Platform.; DatasheetVersion: Dec-1997; PackageVersion: Rev. A,  Dec-1997; PackageReference: TO-249AA; Publisher: Altium Limited; PackageDescription: Rectangular Flange Mount/TO-249-AA; 3 Terminals; Body 61.21 x 25.65 x 10.16 mm  (LxWxH max); ComponentLink1Description: Manufacturer Link; ComponentLink1URL: http://www.irf.com/; ComponentLink2Description: Datasheet; ComponentLink2URL: http://www.irf.com/product-info/datasheets/data/160cmq.pdf
footprint TO-249AA (Rectangular Flange Mount/TO-249-AA; 3 Terminals; Body 61.21 x 25.65 x 10.16 mm  (LxWxH max))
simulation model 160CMQ045 (SUBCKT)
signal-integrity model 160CMQ045
pins: 1 A1, 2 K, 3 A2

## 161CMQ035
designator D?
Schottky Rectifier; Note: Land pattern features silkscreen outline and mounting holes only.; Published: 8-Jun-2000; LatestRevisionDate: 17-Jul-2002; LatestRevisionNote: Re-released for DXP Platform.; DatasheetVersion: Dec-1997; PackageVersion: Rev. A,  Dec-1997; PackageReference: TO-249AA; Publisher: Altium Limited; PackageDescription: Rectangular Flange Mount/TO-249-AA; 3 Terminals; Body 61.21 x 25.65 x 10.16 mm  (LxWxH max); ComponentLink1Description: Manufacturer Link; ComponentLink1URL: http://www.irf.com/; ComponentLink2Description: Datasheet; ComponentLink2URL: http://www.irf.com/product-info/datasheets/data/161cmq.pdf
footprint TO-249AA (Rectangular Flange Mount/TO-249-AA; 3 Terminals; Body 61.21 x 25.65 x 10.16 mm  (LxWxH max))
simulation model 161CMQ035 (SUBCKT)
signal-integrity model 161CMQ035
pins: 1 A1, 2 K, 3 A2

## 161CMQ040
designator D?
Schottky Rectifier; Note: Land pattern features silkscreen outline and mounting holes only.; Published: 8-Jun-2000; LatestRevisionDate: 17-Jul-2002; LatestRevisionNote: Re-released for DXP Platform.; DatasheetVersion: Dec-1997; PackageVersion: Rev. A,  Dec-1997; PackageReference: TO-249AA; Publisher: Altium Limited; PackageDescription: Rectangular Flange Mount/TO-249-AA; 3 Terminals; Body 61.21 x 25.65 x 10.16 mm  (LxWxH max); ComponentLink1Description: Manufacturer Link; ComponentLink1URL: http://www.irf.com/; ComponentLink2Description: Datasheet; ComponentLink2URL: http://www.irf.com/product-info/datasheets/data/161cmq.pdf
footprint TO-249AA (Rectangular Flange Mount/TO-249-AA; 3 Terminals; Body 61.21 x 25.65 x 10.16 mm  (LxWxH max))
simulation model 161CMQ040 (SUBCKT)
signal-integrity model 161CMQ040
pins: 1 A1, 2 K, 3 A2

## 161CMQ045
designator D?
Schottky Rectifier; Note: Land pattern features silkscreen outline and mounting holes only.; Published: 8-Jun-2000; LatestRevisionDate: 17-Jul-2002; LatestRevisionNote: Re-released for DXP Platform.; DatasheetVersion: Dec-1997; PackageVersion: Rev. A,  Dec-1997; PackageReference: TO-249AA; Publisher: Altium Limited; PackageDescription: Rectangular Flange Mount/TO-249-AA; 3 Terminals; Body 61.21 x 25.65 x 10.16 mm  (LxWxH max); ComponentLink1Description: Manufacturer Link; ComponentLink1URL: http://www.irf.com/; ComponentLink2Description: Datasheet; ComponentLink2URL: http://www.irf.com/product-info/datasheets/data/161cmq.pdf
footprint TO-249AA (Rectangular Flange Mount/TO-249-AA; 3 Terminals; Body 61.21 x 25.65 x 10.16 mm  (LxWxH max))
simulation model 161CMQ045 (SUBCKT)
signal-integrity model 161CMQ045
pins: 1 A1, 2 K, 3 A2

## 162CMQ030
designator D?
Schottky Rectifier; Note: Land pattern features silkscreen outline and mounting holes only.; Published: 8-Jun-2000; LatestRevisionDate: 17-Jul-2002; LatestRevisionNote: Re-released for DXP Platform.; DatasheetVersion: Dec-1997; PackageVersion: Rev. A,  Dec-1997; PackageReference: TO-249AA; Publisher: Altium Limited; PackageDescription: Rectangular Flange Mount/TO-249-AA; 3 Terminals; Body 61.21 x 25.65 x 10.16 mm  (LxWxH max); ComponentLink1Description: Manufacturer Link; ComponentLink1URL: http://www.irf.com/; ComponentLink2Description: Datasheet; ComponentLink2URL: http://www.irf.com/product-info/datasheets/data/162cmq030.pdf
footprint TO-249AA (Rectangular Flange Mount/TO-249-AA; 3 Terminals; Body 61.21 x 25.65 x 10.16 mm  (LxWxH max))
simulation model 162CMQ030 (SUBCKT)
signal-integrity model 162CMQ030
pins: 1 A1, 2 K, 3 A2

## 163CMQ080
designator D?
Schottky Rectifier; Note: Land pattern features silkscreen outline and mounting holes only.; Published: 8-Jun-2000; LatestRevisionDate: 17-Jul-2002; LatestRevisionNote: Re-released for DXP Platform.; DatasheetVersion: Dec-1997; PackageVersion: Rev. A,  Dec-1997; PackageReference: TO-249AA; Publisher: Altium Limited; PackageDescription: Rectangular Flange Mount/TO-249-AA; 3 Terminals; Body 61.21 x 25.65 x 10.16 mm  (LxWxH max); ComponentLink1Description: Manufacturer Link; ComponentLink1URL: http://www.irf.com/; ComponentLink2Description: Datasheet; ComponentLink2URL: http://www.irf.com/product-info/datasheets/data/163cmq.pdf
footprint TO-249AA (Rectangular Flange Mount/TO-249-AA; 3 Terminals; Body 61.21 x 25.65 x 10.16 mm  (LxWxH max))
simulation model 163CMQ080 (SUBCKT)
signal-integrity model 163CMQ080
pins: 1 A1, 2 K, 3 A2

## 163CMQ100
designator D?
Schottky Rectifier; Note: Land pattern features silkscreen outline and mounting holes only.; Published: 8-Jun-2000; LatestRevisionDate: 17-Jul-2002; LatestRevisionNote: Re-released for DXP Platform.; DatasheetVersion: Dec-1997; PackageVersion: Rev. A,  Dec-1997; PackageReference: TO-249AA; Publisher: Altium Limited; PackageDescription: Rectangular Flange Mount/TO-249-AA; 3 Terminals; Body 61.21 x 25.65 x 10.16 mm  (LxWxH max); ComponentLink1Description: Manufacturer Link; ComponentLink1URL: http://www.irf.com/; ComponentLink2Description: Datasheet; ComponentLink2URL: http://www.irf.com/product-info/datasheets/data/163cmq.pdf
footprint TO-249AA (Rectangular Flange Mount/TO-249-AA; 3 Terminals; Body 61.21 x 25.65 x 10.16 mm  (LxWxH max))
simulation model 163CMQ100 (SUBCKT)
signal-integrity model 163CMQ100
pins: 1 A1, 2 K, 3 A2

## 163CNQ100
designator D?
Schottky Rectifier; Note: Land pattern features silkscreen outline and mounting holes only.; Published: 8-Jun-2000; LatestRevisionDate: 17-Jul-2002; LatestRevisionNote: Re-released for DXP Platform.; DatasheetVersion: Dec-1997; PackageVersion: Rev. A,  Dec-1997; PackageReference: TO-249AA; Publisher: Altium Limited; PackageDescription: Rectangular Flange Mount/TO-249-AA; 3 Terminals; Body 61.21 x 25.65 x 10.16 mm  (LxWxH max); ComponentLink1Description: Manufacturer Link; ComponentLink1URL: http://www.irf.com/; ComponentLink2Description: Datasheet; ComponentLink2URL: http://www.irf.com/product-info/datasheets/data/163cmq.pdf
footprint TO-249AA (Rectangular Flange Mount/TO-249-AA; 3 Terminals; Body 61.21 x 25.65 x 10.16 mm  (LxWxH max))
simulation model 163CNQ100 (SUBCKT)
signal-integrity model 163CNQ100
pins: 1 A1, 2 K, 3 A2

## 180NQ035
designator D?
Schottky Rectifier; Note: Land pattern features silkscreen outline and mounting holes.; Published: 8-Jun-2000; LatestRevisionDate: 17-Jul-2002; LatestRevisionNote: Re-released for DXP Platform.; DatasheetVersion: Dec-1997; PackageVersion: Rev. B,  Feb-2001; PackageReference: HALF-PAK; Publisher: Altium Limited; PackageDescription: Half-Pak Module; 1 Lug Terminal, 1 Base Terminal; Body 39.62 x 19.69 x 15.11 mm (LxWxH max); ComponentLink1Description: Manufacturer Link; ComponentLink1URL: http://www.irf.com/; ComponentLink2Description: Datasheet; ComponentLink2URL: http://www.irf.com/product-info/datasheets/data/180nq.pdf
footprint HALF-PAK (Half-Pak Module; 1 Lug Terminal, 1 Base Terminal; Body 39.62 x 19.69 x 15.11 mm (LxWxH max))
simulation model 180NQ035 (DIODE)
signal-integrity model 180NQ035
pins: 1 A, 2 K

## 180NQ040
designator D?
Schottky Rectifier; Note: Land pattern features silkscreen outline and mounting holes.; Published: 8-Jun-2000; LatestRevisionDate: 17-Jul-2002; LatestRevisionNote: Re-released for DXP Platform.; DatasheetVersion: Dec-1997; PackageVersion: Rev. B,  Feb-2001; PackageReference: HALF-PAK; Publisher: Altium Limited; PackageDescription: Half-Pak Module; 1 Lug Terminal, 1 Base Terminal; Body 39.62 x 19.69 x 15.11 mm (LxWxH max); ComponentLink1Description: Manufacturer Link; ComponentLink1URL: http://www.irf.com/; ComponentLink2Description: Datasheet; ComponentLink2URL: http://www.irf.com/product-info/datasheets/data/180nq.pdf
footprint HALF-PAK (Half-Pak Module; 1 Lug Terminal, 1 Base Terminal; Body 39.62 x 19.69 x 15.11 mm (LxWxH max))
simulation model 180NQ040 (DIODE)
signal-integrity model 180NQ040
pins: 1 A, 2 K

## 180NQ045
designator D?
Schottky Rectifier; Note: Land pattern features silkscreen outline and mounting holes.; Published: 8-Jun-2000; LatestRevisionDate: 17-Jul-2002; LatestRevisionNote: Re-released for DXP Platform.; DatasheetVersion: Dec-1997; PackageVersion: Rev. B,  Feb-2001; PackageReference: HALF-PAK; Publisher: Altium Limited; PackageDescription: Half-Pak Module; 1 Lug Terminal, 1 Base Terminal; Body 39.62 x 19.69 x 15.11 mm (LxWxH max); ComponentLink1Description: Manufacturer Link; ComponentLink1URL: http://www.irf.com/; ComponentLink2Description: Datasheet; ComponentLink2URL: http://www.irf.com/product-info/datasheets/data/180nq.pdf
footprint HALF-PAK (Half-Pak Module; 1 Lug Terminal, 1 Base Terminal; Body 39.62 x 19.69 x 15.11 mm (LxWxH max))
simulation model 180NQ045 (DIODE)
signal-integrity model 180NQ045
pins: 1 A, 2 K

## 181NQ035
designator D?
Schottky Rectifier; Note: Land pattern features silkscreen outline and mounting holes.; Published: 8-Jun-2000; LatestRevisionDate: 17-Jul-2002; LatestRevisionNote: Re-released for DXP Platform.; DatasheetVersion: Dec-1997; PackageVersion: Rev. B,  Feb-2001; PackageReference: HALF-PAK; Publisher: Altium Limited; PackageDescription: Half-Pak Module; 1 Lug Terminal, 1 Base Terminal; Body 39.62 x 19.69 x 15.11 mm (LxWxH max); ComponentLink1Description: Manufacturer Link; ComponentLink1URL: http://www.irf.com/; ComponentLink2Description: Datasheet; ComponentLink2URL: http://www.irf.com/product-info/datasheets/data/181nq.pdf
footprint HALF-PAK (Half-Pak Module; 1 Lug Terminal, 1 Base Terminal; Body 39.62 x 19.69 x 15.11 mm (LxWxH max))
simulation model 181NQ035 (DIODE)
signal-integrity model 181NQ035
pins: 1 A, 2 K